# EAGLE library part VFD-INRC09SS49T (library RalimTek)
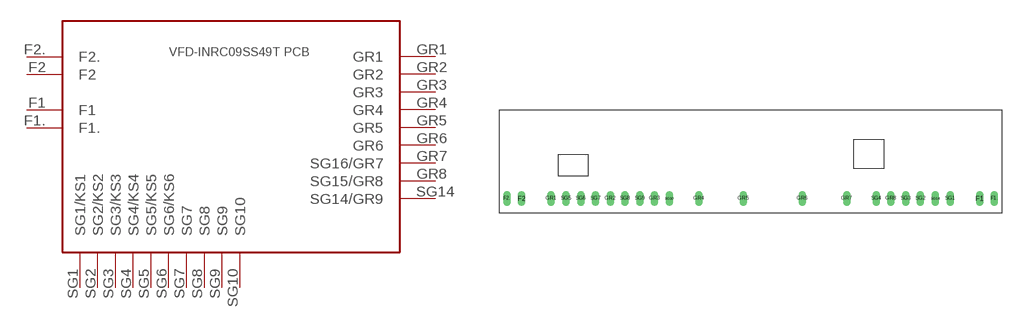
[diagram p34: symbol with the pads of VFD-INRC09; footprint VFD-INRC09]

Designator prefix -

## VFD-INRC09SS49T  [VFD-INRC09]
F1  F1
F1.  F1.
F2  F2
F2.  F2.
GR1  GR1
GR2  GR2
GR3  GR3
GR4  GR4
GR5  GR5
GR6  GR6
GR7  SG16/GR7
GR8  SG15/GR8
SG1  SG1/KS1
SG2  SG2/KS2
SG3  SG3/KS3
SG4  SG4/KS4
SG5  SG5/KS5
SG6  SG6/KS6
SG7  SG7
SG8  SG8
SG9  SG9
SG10  SG10
SG14  SG14/GR9

## Footprint VFD-INRC09 (pad centres in mm)
drill 0.8 long: F1 81.28,0; F1. 83.82,0; F2 2.54,0; F2. 0,0; GR1 7.62,0; GR2 17.78,0; GR3 25.4,0; GR4 33.02,0; GR5 40.64,0; GR6 50.8,0; GR7 58.42,0; GR8 66.04,0; SG1 76.2,0; SG2 71.12,0; SG3 68.58,0; SG4 63.5,0; SG5 10.16,0; SG6 12.7,0; SG7 15.24,0; SG8 20.32,0; SG9 22.86,0; SG10 27.94,0; SG14 73.66,0